# Altium footprint library USB Connectors.PcbLib: 6 footprints
Each footprint in its own frame and in the unit in brackets; x right, y up, seen from the top. Pads: shape width x height; smd on the part's side, far side on the other; paste and mask are expansions set on the pad; w line width, h text height; cw(c..) or ccw(c..) is an arc to the next point about the centre after c.
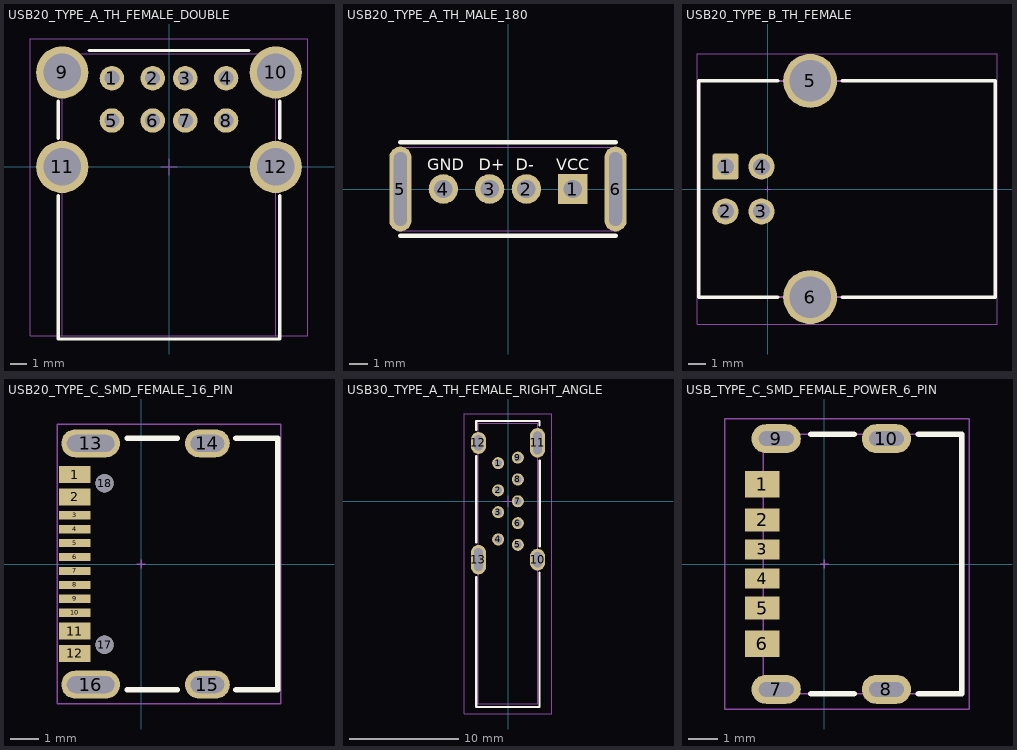
[diagram p0: the footprints below, top view; thin cyan lines are the x and y axes]

## USB20_TYPE_A_TH_FEMALE_DOUBLE [mm]
pads (12):
  round 1.5 hole 0.92 paste-2539.97 mask+0.05: 1(-3.5,5.45) 2(-1,5.45) 3(1,5.45) 4(3.5,5.45) 5(-3.5,2.85) 6(-1,2.85) 7(1,2.85) 8(3.5,2.85)
  round 3.2 hole 2.3 paste-2539.97 mask+0.05: 9(-6.55,5.8) 10(6.55,5.8) 11(-6.55,0) 12(6.55,0)
Top Overlay:
  lines w0.2: -6.8,-1.75 -6.8,-10.55 6.8,-10.55 6.8,-1.75 ; -6.8,1.75 -6.8,4.05 ; -4.9,7.15 4.9,7.15 ; 6.8,1.75 6.8,4.05
Top Assembly:
  lines w0.05: -6.55,-10.35 6.55,-10.35 6.55,6.95 -6.55,6.95 -6.55,-10.35
Top Courtyard:
  lines w0.05: -8.5,-10.35 8.5,-10.35 8.5,7.85 -8.5,7.85 -8.5,-10.35
Top Component Center:
  lines w0.05: -0.5,0 0.5,0 ; 0,-0.5 0,0.5
3D body "xb-u224-08xn-1xr61.stp": height 16.15, standoff -4.05, extent -7.692,-10.15 7.7,7.35

## USB20_TYPE_A_TH_MALE_180 [mm]
pads (6):
  rect 1.6x1.6 hole 1 paste-2539.97 mask+0.05: 1(3.5,0)
  round 1.6 hole 1 paste-2539.97 mask+0.05: 2(1,0) 3(-1,0) 4(-3.5,0)
  oval 1.2x4.6 hole 0.7 slot 4 at 90 deg paste-2539.97 mask+0.05: 5(-5.83,0) 6(5.83,0)
Top Overlay:
  lines w0.254: -5.842,-2.54 5.842,-2.54 ; -5.842,2.54 5.842,2.54
  text "VCC" at 2.627,1.027 h0.64
  text "D-" at 0.427,1.027 h0.64
  text "D+" at -1.573,1.027 h0.64
  text "GND" at -4.373,1.027 h0.64
Top Assembly:
  lines w0.05: -6,-2.25 6,-2.25 6,2.25 -6,2.25 -6,-2.25
3D body "xb-u216-04xn-1xs82.stp": height 14, standoff -6.1, extent -6,-2.25 6,2.25

## USB20_TYPE_B_TH_FEMALE [mm]
height 10.9
pads (6):
  rrect20% 1.45x1.45 hole 0.92 mask+0.05: 1(-2.355,1.25)
  round 1.45 hole 0.92 mask+0.05: 2(-2.355,-1.25) 3(-0.355,-1.25) 4(-0.355,1.25)
  round 3 hole 2.3 mask+0.05: 5(2.355,6.02) 6(2.355,-6.02)
Top Overlay:
  lines w0.2: 0.555,-6.02 -3.845,-6.02 -3.845,6.02 0.555,6.02 ; 4.155,-6.02 12.655,-6.02 12.655,6.02 4.155,6.02
Top Assembly:
  lines w0.1: -3.845,-6.02 12.655,-6.02 12.655,6.02 -3.845,6.02 -3.845,-6.02
Top Courtyard:
  lines w0.05: -3.945,-7.52 -3.945,7.52 12.755,7.52 12.755,-7.52 -3.945,-7.52
Top Component Center:
  lines w0.05: -0.15,0 0.15,0 ; 0,-0.15 0,0.15
3D body "USB 2.0 Type B Connector Right Angle (Würth 61400416121).stp": height 10.97, standoff -3.41, extent -3.68,-7.422 12.82,7.422

## USB20_TYPE_C_SMD_FEMALE_16_PIN [mm]
pads (18):
  rect 1.14x0.6 smd mask+0.05: 1(-2.375,3.2) 2(-2.375,2.4) 11(-2.375,-2.4) 12(-2.375,-3.2)
  rect 1.14x0.3 smd mask+0.05: 3(-2.375,1.75) 4(-2.375,1.25) 5(-2.375,0.75) 6(-2.375,0.25) 7(-2.375,-0.25) 8(-2.375,-0.75) 9(-2.375,-1.25) 10(-2.375,-1.75)
  oval 2.1x1 hole 0.6 slot 1.7 at 0 deg mask+0.05: 13(-1.805,4.32) 16(-1.805,-4.32)
  oval 1.6x1 hole 0.6 slot 1.2 at 0 deg mask+0.05: 14(2.375,4.32) 15(2.375,-4.32)
  round 0.65 hole 0.65 unplated mask+0.05: 17(-1.305,-2.89) 18(-1.305,2.89)
Top Overlay:
  lines w0.2: -0.5,-4.5 1.3,-4.5 ; -0.5,4.5 1.3,4.5 ; 3.4,-4.5 4.9,-4.5 4.9,4.5 3.4,4.5
Top Courtyard:
  lines w0.05: -3,-5 5,-5 5,5 -3,5 -3,-5
Top Component Center:
  lines w0.05: -0.15,0 0.15,0 ; 0,-0.15 0,0.15
3D body "Type-C 16P.STEP": height 3.21, standoff -1, extent -2.95,-4.47 4.95,4.47

## USB30_TYPE_A_TH_FEMALE_RIGHT_ANGLE [mm]
height 14.7
pads (13):
  round 1.1 hole 0.7 paste-2539.97 mask+0.05: 1(-0.9,3.5) 2(-0.9,1) 3(-0.9,-1) 4(-0.9,-3.5) 5(0.9,-4) 6(0.9,-2) 7(0.9,0) 8(0.9,2) 9(0.9,4)
  oval 1.4x2 hole 0.8 slot 1.4 at 90 deg paste-2539.97 mask+0.05: 10(2.71,-5.35) 12(-2.71,5.35)
  oval 1.4x2.7 hole 0.8 slot 2.1 at 90 deg paste-2539.97 mask+0.05: 11(2.71,5.35) 13(-2.71,-5.35)
Top Overlay:
  lines w0.2: -2.91,-6.95 -2.91,-18.65 -2.91,-18.85 2.89,-18.85 2.89,-6.55 ; -2.91,-3.75 -2.91,4.15 ; -2.91,6.55 -2.91,7.35 2.89,7.35 2.89,6.95 ; 2.91,-4.15 2.91,3.75
Top Assembly:
  lines w0.1: -2.71,-18.55 2.71,-18.55 2.71,7.15 -2.71,7.15 -2.71,-18.55
Top Courtyard:
  lines w0.1: -4,-19.5 4,-19.5 4,8 -4,8 -4,-19.5
Top Component Center:
  lines w0.05: -0.5,0 0.5,0 ; 0,-0.5 0,0.5
3D body "xb-u231-091n-4blcc14-s5.stp": height 14.85, standoff -3.36, extent -3.62,-18.5 3.7,7.2

## USB_TYPE_C_SMD_FEMALE_POWER_6_PIN [mm]
pads (10):
  rect 1.2x0.9 smd mask+0.05: 1(-2.14,2.75) 6(-2.14,-2.75)
  rect 1.2x0.8 smd mask+0.05: 2(-2.14,1.52) 5(-2.14,-1.52)
  rect 1.2x0.7 smd mask+0.05: 3(-2.14,0.5) 4(-2.14,-0.5)
  oval 1.7x1 hole 0.5 slot 1.2 at 0 deg mask+0.05: 7(-1.66,-4.32) 8(2.14,-4.32) 9(-1.66,4.32) 10(2.14,4.32)
Top Overlay:
  lines w0.2: -0.465,-4.47 1.023,-4.47 ; -0.465,4.47 1.023,4.47 ; 3.248,-4.47 4.735,-4.47 ; 3.248,4.47 4.735,4.47 4.735,-4.47
Top Assembly:
  lines w0.05: -2.1,-4.475 4.8,-4.475 4.8,4.475 -2.1,4.475 -2.1,-4.475
Top Courtyard:
  lines w0.05: -3.44,-5 5,-5 5,5 -3.44,5 -3.44,-5
Top Component Center:
  lines w0.05: -0.15,0 0.15,0 ; 0,-0.15 0,0.15
3D body "USB Connector Type C female 6pin.STEP": height 3.4, standoff -0.82, extent -2.13,-4.47 4.74,4.47